# Altium footprint library ESP32-C6-MINI-1.PCBLIB: 1 footprints
Each footprint in its own frame and in the unit in brackets; x right, y up, seen from the top. Pads: shape width x height; smd on the part's side, far side on the other; paste and mask are expansions set on the pad; w line width, h text height; cw(c..) or ccw(c..) is an arc to the next point about the centre after c.
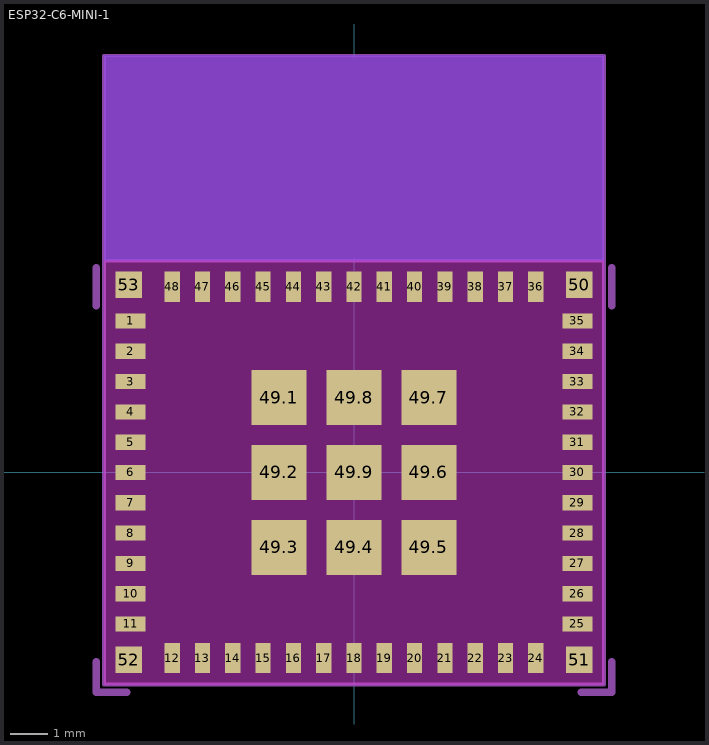
[diagram p0: the footprint, top view; thin cyan lines are the x and y axes]

## ESP32-C6-MINI-1 [mil]
pads (61):
  rect 31.5x15.75 smd paste+0: 1(-232.28,157.48) 2(-232.28,125.98) 3(-232.28,94.49) 4(-232.28,62.99) 5(-232.28,31.5) 6(-232.28,0) 7(-232.28,-31.5) 8(-232.28,-62.99) 9(-232.28,-94.49) 10(-232.28,-125.98) 11(-232.28,-157.48) 25(232.28,-157.48) 26(232.28,-125.98) 27(232.28,-94.49) 28(232.28,-62.99) 29(232.28,-31.5) 30(232.28,0) 31(232.28,31.5) 32(232.28,62.99) 33(232.28,94.49) 34(232.28,125.98) 35(232.28,157.48)
  rect 15.75x31.5 smd paste+0: 12(-188.98,-192.91) 13(-157.48,-192.91) 14(-125.98,-192.91) 15(-94.49,-192.91) 16(-62.99,-192.91) 17(-31.5,-192.91) 18(0,-192.91) 19(31.5,-192.91) 20(62.99,-192.91) 21(94.49,-192.91) 22(125.98,-192.91) 23(157.48,-192.91) 24(188.98,-192.91) 36(188.98,192.91) 37(157.48,192.91) 38(125.98,192.91) 39(94.49,192.91) 40(62.99,192.91) 41(31.5,192.91) 42(0,192.91) 43(-31.5,192.91) 44(-62.99,192.91) 45(-94.49,192.91) 46(-125.98,192.91) 47(-157.48,192.91) 48(-188.98,192.91)
  rect 57.09x57.09 smd paste+0: 49.1(-77.76,77.76) 49.2(-77.76,0) 49.3(-77.76,-77.76) 49.4(0,-77.76) 49.5(77.76,-77.76) 49.6(77.76,0) 49.7(77.76,77.76) 49.8(0,77.76) 49.9(0,0)
  rect 27.56x27.56 smd paste+0: 50(234.25,194.88) 51(234.25,-194.88) 52(-234.25,-194.88) 53(-234.25,194.88)
Top keep-out:
  region: -259.84,-220.47 -259.84,433.07 259.84,433.07 259.84,-220.47
  region: -259.84,220.47 -259.84,433.07 259.84,433.07 259.84,220.47
Bottom keep-out:
  region: 259.84,433.07 259.84,220.47 -259.84,220.47 -259.84,433.07
Top Paste:
  drawing of 61 lines, arcs and shapes, not listed
tDocu:
  lines w3.94: -259.84,220.47 -259.84,433.07 259.84,433.07 259.84,220.47 ; -259.84,220.47 -259.84,-220.47 259.84,-220.47 259.84,220.47 ; -259.84,220.47 259.84,220.47
tPlace:
  lines w7.87: -267.72,-196.85 -267.72,-228.35 -236.22,-228.35 ; -267.72,173.23 -267.72,212.6 ; 236.22,-228.35 267.72,-228.35 267.72,-196.85 ; 267.72,173.23 267.72,212.6